# Altium footprint library Loggerhead.PcbLib: 175 footprints (part 10 of 11)
Each footprint in its own frame and in the unit in brackets; x right, y up, seen from the top. Pads: shape width x height; smd on the part's side, far side on the other; paste and mask are expansions set on the pad; w line width, h text height; cw(c..) or ccw(c..) is an arc to the next point about the centre after c.
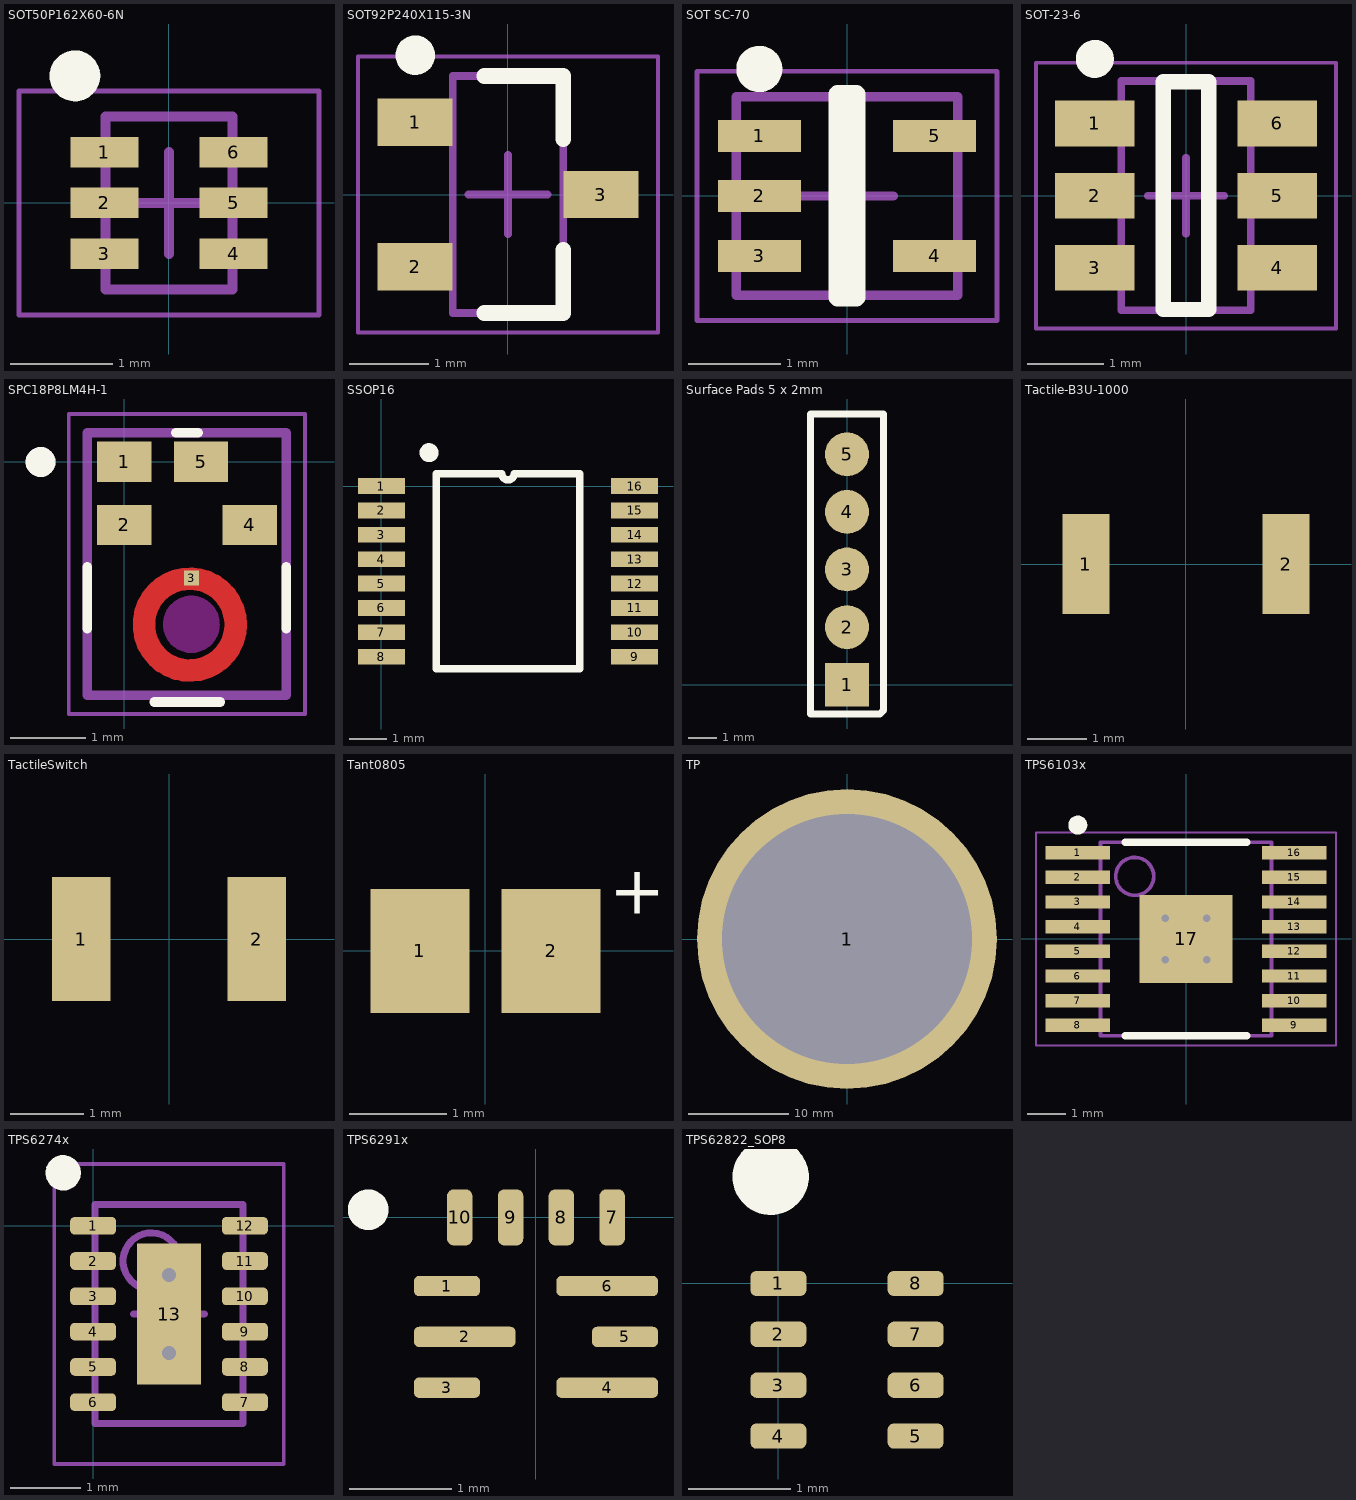
[diagram p9: the footprints below, top view; thin cyan lines are the x and y axes]

## SOT23 [mm]

## SOT50P162X60-6N [mm] "SOT23, 6-Leads, Body 1.60x1.63mm, Pitch 0.50mm, IPC Medium Density"
height 0.6
pads (6):
  rect 0.67x0.3 smd paste-0.05 mask+0.03: 1(-0.635,0.5) 2(-0.635,0) 3(-0.635,-0.5) 4(0.635,-0.5) 5(0.635,0) 6(0.635,0.5)
Top Overlay:
  circle w0.25: c-0.925,1.25 r0.125
Mechanical 13:
  lines w0.1: -0.625,-0.85 -0.625,0.85 0.625,0.85 0.625,-0.85 -0.625,-0.85
Mechanical 15:
  lines w0.05: -1.475,-1.1 -1.475,1.1 1.475,1.1 1.475,-1.1 -1.475,-1.1
  lines w0.1: -0.5,0 0.5,0 ; 0,-0.5 0,0.5
3D body: height 0.6, standoff 0.1, extent -0.625,-0.85 0.625,0.85

## SOT92P240X115-3N [mm] "SOT23, 3-Leads, Body 2.90x2.40mm, Pitch 0.92mm, IPC Medium Density"
height 1.15
pads (3):
  rect 0.95x0.6 smd: 1(-1.175,0.915) 2(-1.175,-0.915) 3(1.175,0)
Top Overlay:
  circle w0.25: c-1.175,1.765 r0.125
  lines w0.2: -0.3,-1.5 0.7,-1.5 0.7,-0.7 ; -0.3,1.5 0.7,1.5 0.7,0.7
Mechanical 13:
  lines w0.1: -0.7,-1.5 0.7,-1.5 0.7,1.5 -0.7,1.5 -0.7,-1.5
Mechanical 15:
  lines w0.05: -1.9,-1.75 1.9,-1.75 1.9,1.75 -1.9,1.75 -1.9,-1.75
  lines w0.1: -0.5,0 0.5,0 ; 0,-0.5 0,0.5
3D body: height 1.15, standoff 0.1, extent -0.7,-1.5 0.7,1.5

## SOT SC-70 [mm] "SOT23, 5-Leads, Body 2.00x2.10mm, Pitch 0.65mm, IPC Medium Density"
height 1.1
pads (5):
  rect 0.9x0.35 smd: 1(-0.95,0.65) 2(-0.95,0) 3(-0.95,-0.65) 4(0.95,-0.65) 5(0.95,0.65)
Top Overlay:
  circle w0.25: c-0.95,1.375 r0.125
  lines w0.2: -0.1,-1.1 -0.1,1.1 0.1,1.1 0.1,-1.1 -0.1,-1.1
Mechanical 13:
  lines w0.1: -1.2,-1.075 1.2,-1.075 1.2,1.075 -1.2,1.075 -1.2,-1.075
Mechanical 15:
  lines w0.05: -1.625,-1.35 1.625,-1.35 1.625,1.35 -1.625,1.35 -1.625,-1.35
  lines w0.1: -0.5,0 0.5,0 ; 0,-0.5 0,0.5
3D body: height 1.1, standoff 0.1, extent -1.2,-1.075 1.2,1.075

## SOT-23-6 [mm] "AP2502KTR-G1"
height 1.45
pads (6):
  rect 1.05x0.6 smd: 1(-1.2,0.95) 2(-1.2,0) 3(-1.2,-0.95) 4(1.2,-0.95) 5(1.2,0) 6(1.2,0.95)
Top Overlay:
  circle w0.25: c-1.2,1.8 r0.125
  lines w0.2: -0.3,-1.5 0.3,-1.5 0.3,1.5 -0.3,1.5 -0.3,-1.5
Mechanical 13:
  lines w0.1: -0.85,-1.51 -0.85,1.51 0.85,1.51 0.85,-1.51 -0.85,-1.51
Mechanical 15:
  lines w0.05: -1.975,-1.75 -1.975,1.75 1.975,1.75 1.975,-1.75 -1.975,-1.75
  lines w0.1: -0.5,0 0.5,0 ; 0,-0.5 0,0.5
3D body: height 1.45, standoff 0.15, extent -0.85,-1.51 0.85,1.51

## SPC18P8LM4H-1 [mm]
height 1
pads (5):
  rect 0.725x0.54 smd: 1(0,0) 2(0,-0.84) 4(1.675,-0.84) 5(1.025,0)
  rect 0.2x0.2 smd paste-1 mask+0: 3(0.9,-1.55)
Top Layer:
  circle w0.3: c0.875,-2.168 r0.613
Top Overlay:
  circle w0.2: c-1.115,0 r0.1
  lines w0.127: -0.49,-2.22 -0.49,-1.4 ; 0.4,-3.2 1.28,-3.2 ; 0.69,0.39 0.99,0.39 ; 2.16,-2.22 2.16,-1.4
Keep-Out Layer:
  drawing of 2 lines, arcs and shapes, not listed
Mechanical 13:
  circle w0.2: c-1.115,0 r0.1
  lines w0.127: -0.49,-3.11 -0.49,0.39 2.16,0.39 2.16,-3.11 -0.49,-3.11
Mechanical 15:
  lines w0.05: -0.74,-3.36 -0.74,0.64 2.41,0.64 2.41,-3.36 -0.74,-3.36
3D body "step_temp.STEP": height 1.4, standoff 0, extent -0.485,-3.11 2.165,0.39

## SSOP16 [mm]
pads (16):
  rect 1.25x0.42 smd: 1(0,0) 2(0,-0.65) 3(0,-1.3) 4(0,-1.95) 5(0,-2.6) 6(0,-3.25) 7(0,-3.9) 8(0,-4.55) 9(6.75,-4.55) 10(6.75,-3.9) 11(6.75,-3.25) 12(6.75,-2.6) 13(6.75,-1.95) 14(6.75,-1.3) 15(6.75,-0.65) 16(6.75,0)
Top Overlay:
  circle w0.254: c1.27,0.889 r0.127
  lines w0.2: 1.46,-4.875 1.46,0.325 3.213,0.325 ccw(c3.375,0.325) 3.537,0.325 5.29,0.325 5.29,-4.875 1.46,-4.875

## Surface Pads 5 x 2mm [mil]
pads (5):
  rect 60x60 smd: 1(0,0.04)
  round 60 smd: 2(0,78.78) 3(0,157.52) 4(0,236.26) 5(0,315)
Top Overlay:
  lines w10: -50,-40 -50,370 50,370 50,-35 45,-40 -50,-40

## Tactile-B3U-1000 [mm]
pads (2):
  rect 0.8x1.7 smd: 1(-1.7,0) 2(1.7,0)

## TactileSwitch [mm]
pads (2):
  rect 0.8x1.7 smd: 1(-1.2,0) 2(1.2,0)

## Tant0805 [mil]
pads (2):
  rect 40x50 smd: 1(-26.5,0) 2(26.5,0)
Top Overlay:
  text "+" at 50,15 h19.68

## TP [mm]
pads (1):
  round 30 hole 25: 1(0,0)

## TPS6103x [mm] "TSOP, 16-Leads, Body 5.00x4.40mm, Pitch 0.65mm, Thermal Pad 2.31.2x2.46.2mm, IPC Medium Density"
height 1.2
pads (17):
  rect 1.7x0.35 smd: 1(-2.85,2.275) 2(-2.85,1.625) 3(-2.85,0.975) 4(-2.85,0.325) 5(-2.85,-0.325) 6(-2.85,-0.975) 7(-2.85,-1.625) 8(-2.85,-2.275) 9(2.85,-2.275) 10(2.85,-1.625) 11(2.85,-0.975) 12(2.85,-0.325) 13(2.85,0.325) 14(2.85,0.975) 15(2.85,1.625) 16(2.85,2.275)
  rect 2.46x2.31 smd: 17(0,0)
via -0.55,0.55 diameter 0.5 hole 0.2
via 0.55,0.55 diameter 0.5 hole 0.2
via -0.55,-0.55 diameter 0.5 hole 0.2
via 0.55,-0.55 diameter 0.5 hole 0.2
Top Overlay:
  circle w0.25: c-2.85,3 r0.125
  lines w0.2: -1.6,-2.55 1.6,-2.55 ; -1.6,2.55 1.6,2.55
Mechanical 13:
  circle w0.1: c-1.35,1.65 r0.5
  lines w0.1: -2.25,-2.55 -2.25,2.55 2.25,2.55 2.25,-2.55 -2.25,-2.55
Mechanical 15:
  lines w0.05: -3.95,-2.8 -3.95,2.8 3.95,2.8 3.95,-2.8 -3.95,-2.8
  lines w0.1: -0.5,0 0.5,0 ; 0,-0.5 0,0.5
3D body: height 1.2, standoff 0.1, extent -2.25,-2.55 2.25,2.55

## TPS6274x [mm] "QFN, 12-Leads, Body 2.00x3.00mm, Pitch 0.50mm, Thermal Pad 0.90x2.00mm, IPC Medium Density"
height 0.8
pads (13):
  rrect50% 0.65x0.25 smd: 1(0,0) 2(0,-0.5) 3(0,-1) 4(0,-1.5) 5(0,-2) 6(0,-2.5) 7(2.15,-2.5) 8(2.15,-2) 9(2.15,-1.5) 10(2.15,-1) 11(2.15,-0.5) 12(2.15,0)
  rect 0.9x2 smd paste-0.1: 13(1.075,-1.25)
via 1.075,-0.7 diameter 0.5 hole 0.2
via 1.075,-1.8 diameter 0.5 hole 0.2
Top Overlay:
  circle w0.25: c-0.425,0.75 r0.125
Mechanical 13:
  circle w0.1: c0.825,-0.5 r0.4
  lines w0.1: 0.025,-2.8 0.025,0.3 2.125,0.3 2.125,-2.8 0.025,-2.8
Mechanical 15:
  lines w0.05: -0.55,-3.375 -0.55,0.875 2.7,0.875 2.7,-3.375 -0.55,-3.375
  lines w0.1: 0.575,-1.25 1.575,-1.25 ; 1.075,-1.75 1.075,-0.75
3D body: height 0.8, standoff 0.08, extent 0.025,-2.8 2.125,0.3

## TPS6291x [mm] "Buck converter"
height 1
pads (10):
  rrect50% 0.65x0.2 smd mask+0.05: 1(-0.875,-0.675) 3(-0.875,-1.675) 5(0.875,-1.175)
  rrect50% 1x0.2 smd mask+0.05: 2(-0.7,-1.175) 4(0.7,-1.675) 6(0.7,-0.675)
  rrect50% 0.25x0.55 smd mask+0.05: 7(0.75,0) 8(0.25,0) 9(-0.25,0) 10(-0.75,0)
Top Overlay:
  circle w0.2: c-1.65,0.075 r0.1

## TPS62822_SOP8 [mm]
pads (8):
  rrect50% 0.55x0.25 smd: 1(0,0) 2(0,-0.5) 3(0,-1) 4(0,-1.5) 5(1.35,-1.5) 6(1.35,-1) 7(1.35,-0.5) 8(1.35,0)
Top Overlay:
  circle w0.5: c-0.075,1.05 r0.125